# Altium schematic symbol library ic.SchLib: 3 symbols
Pins are listed as number, name and electrical type; pins without a type are passive.

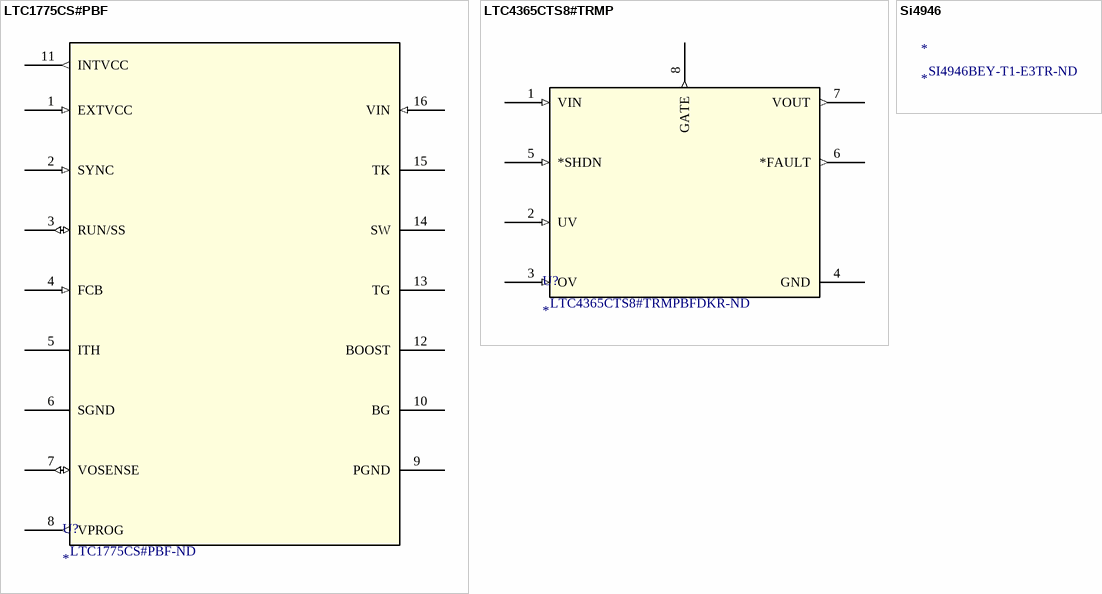
[diagram p0: symbols LTC1775CS#PBF to Si4946]

## LTC1775CS#PBF
designator U?  Supplier Part Number 1: LTC1775CS#PBF-ND
Imported; Manufacturer_Part_Number: LTC1775CS#PBF; Vendor: Linear Technology; RefDes: RefDes; Type: DEV; Value: Value; Supplier 1: Digi-Key
footprint SO-16_S
pins: 1 EXTVCC (in), 2 SYNC (in), 3 RUN/SS (io), 4 FCB (in), 5 ITH, 6 SGND (power), 7 VOSENSE (io), 8 VPROG (out), 9 PGND (power), 10 BG, 11 INTVCC (out), 12 BOOST, 13 TG, 14 SW, 15 TK, 16 VIN (in)

## LTC4365CTS8#TRMP
designator U?  Supplier Part Number 1: LTC4365CTS8#TRMPBFDKR-ND
Overvoltage, / Undervoltage and Reverse / Supply Protection Controller; Manufacturer_Part_Number: LTC4365CTS8#TRMPBF; Vendor: Linear Technology; RefDes: RefDes; Type: DEV; Value: Value; Supplier 1: Digi-Key
footprint TSOT-23_TS8
pins: 1 VIN (in), 2 UV (in), 3 OV (in), 4 GND (power), 5 *SHDN (in), 6 *FAULT (out), 7 VOUT (out), 8 GATE (out)

## Si4946
designator *  Supplier Part Number 1: SI4946BEY-T1-E3TR-ND
Supplier 1: Digi-Key